# Altium schematic symbol library 2020-11-29_00-03-25.SchLib: 2 symbols
Pins are listed as number, name and electrical type; pins without a type are passive.

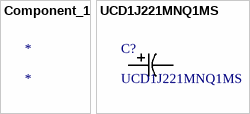
[diagram p0: symbols Component_1 to UCD1J221MNQ1MS]

## Component_1
designator *

## UCD1J221MNQ1MS
designator C?
No Description Available; Vendor: Nichicon; Built_By: EMA_UL_Team; SourceLibrary: Nichicon_2011-10-21; Type: DEV; Manufacturer_Part_Number: UCD1J221MNQ1MS; Copyright: Copyright (C) 2018 Accelerated Designs. All rights reserved; RefDes: RefDes
footprint PCAP_12_5x13_5-ELECT_NCA
pins: 1, 2